# Altium schematic symbol library Schematics.SchLib: 13 symbols
Pins are listed as number, name and electrical type; pins without a type are passive.

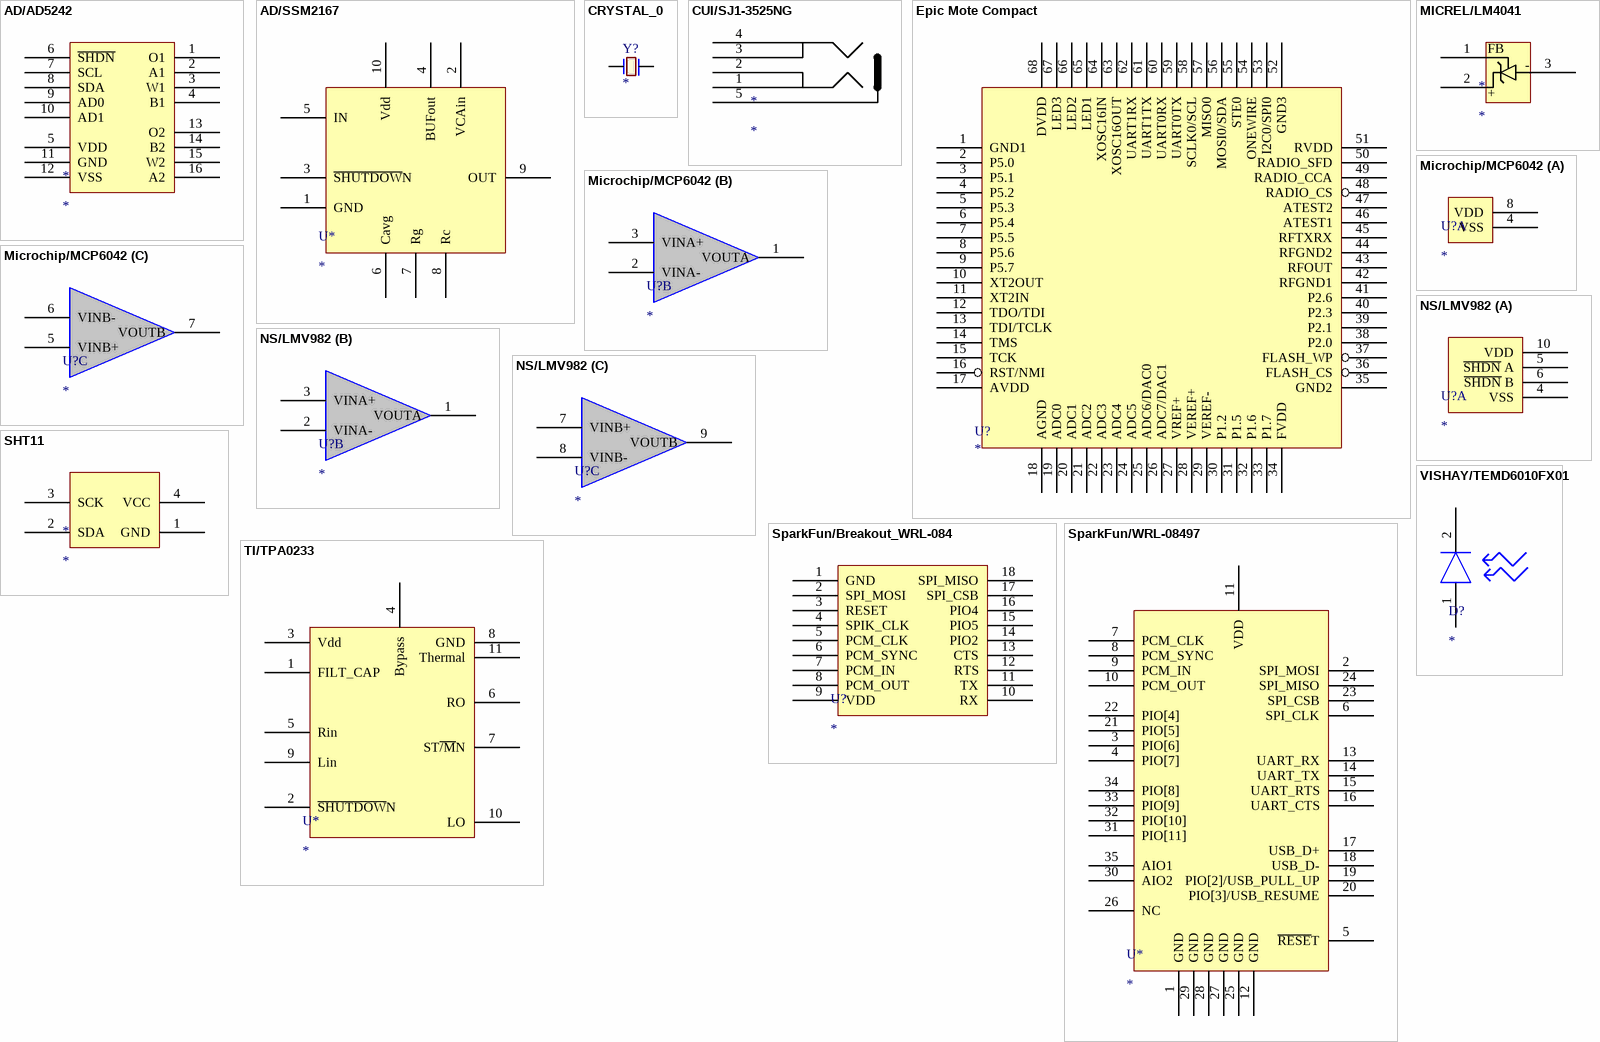
[diagram p0: symbols AD/AD5242 to VISHAY/TEMD6010FX01]

## AD/AD5242
designator *
footprint SOIC127P600X175-16N (SOIC, 16-Leads, Body 10.0x4.0mm (max), Pitch 1.27mm, IPC Medium Density, AD5242)
pins: 1 O1, 2 A1, 3 W1, 4 B1, 5 VDD, 6 ~{SHDN}, 7 SCL, 8 SDA, 9 AD0, 10 AD1, 11 GND, 12 VSS, 13 O2, 14 B2, 15 W2, 16 A2

## AD/SSM2167
designator U*
footprint MSOP127P600-8N (For AD SSM2167)
pins: 1 GND, 2 VCAin, 3 ~{SHUTDOW}N, 4 BUFout, 5 IN, 6 Cavg, 7 Rg, 8 Rc, 9 OUT, 10 Vdd

## CRYSTAL_0
designator Y?
pins: 1, 2

## CUI/SJ1-3525NG
designator *
footprint CUI/PHONE_JACK_3.5mm (3.5mm Audio Jack Stereo)
pins: 1, 2, 3, 4, 5

## Epic Mote Compact
designator U?
footprint LCCS127P2413X2413X254-68N (LCC, 68-Pins, Body 24.1x24.1mm (max), Pitch 1.27mm, IPC Medium Density)
footprint UCB/Epic_Quanto_Header (Header to connect to the Epic Quanto Testbed Board)
pins: 1 GND1, 2 P5.0, 3 P5.1, 4 P5.2, 5 P5.3, 6 P5.4, 7 P5.5, 8 P5.6, 9 P5.7, 10 XT2OUT, 11 XT2IN, 12 TDO/TDI, 13 TDI/TCLK, 14 TMS, 15 TCK, 16 RST/NMI, 17 AVDD, 18 AGND, 19 ADC0, 20 ADC1, 21 ADC2, 22 ADC3, 23 ADC4, 24 ADC5, 25 ADC6/DAC0, 26 ADC7/DAC1, 27 VREF+, 28 VEREF+, 29 VEREF-, 30 P1.2, 31 P1.5, 32 P1.6, 33 P1.7, 34 FVDD, 35 GND2, 36 FLASH_CS, 37 FLASH_WP, 38 P2.0, 39 P2.1, 40 P2.3, 41 P2.6, 42 RFGND1, 43 RFOUT, 44 RFGND2, 45 RFTXRX, 46 ATEST1, 47 ATEST2, 48 RADIO_CS, 49 RADIO_CCA, 50 RADIO_SFD, 51 RVDD, 52 GND3, 53 I2C0/SPI0, 54 ONEWIRE, 55 STE0, 56 MOSI0/SDA, 57 MISO0, 58 SCLK0/SCL, 59 UART0TX, 60 UART0RX, 61 UART1TX, 62 UART1RX, 63 XOSC16OUT, 64 XOSC16IN, 65 LED1, 66 LED2, 67 LED3, 68 DVDD

## MICREL/LM4041
designator *
footprint SOT231 (M3) (for Micrel LM4041)
pins: 1, 2, 3 -
text: FB; +

## Microchip/MCP6042
designator U?
footprint SOIC127P600X175-8N (SOIC, 8-Leads, Body 4.9x3.9mm (max), Pitch 1.27mm, IPC Medium Density, for Microchip MCP6042)
part A pins: 4 VSS (power), 8 VDD (power)
part B pins: 1 VOUTA, 2 VINA-, 3 VINA+
part C pins: 5 VINB+, 6 VINB-, 7 VOUTB

## NS/LMV982
designator U?
footprint MSOP10 (for Micrel LMV982)
part A pins: 4 VSS (power), 5 ~{SHDN} A, 6 ~{SHDN} B, 10 VDD (power)
part B pins: 1 VOUTA, 2 VINA-, 3 VINA+
part C pins: 7 VINB+, 8 VINB-, 9 VOUTB

## SHT11
designator *
footprint Sensirion/SHT11 (Sensirion SHT11 footprint)
pins: 1 GND (power), 2 SDA, 3 SCK "SCLK", 4 VCC (power)

## SparkFun/Breakout_WRL-084
designator U?
footprint SparkFun/Breakout_WRL-084 (Two 9 pin headers, 800mil spacing for SparkFun WRL-084 bluetooth module)
pins: 1 GND, 2 SPI_MOSI, 3 RESET, 4 SPIK_CLK, 5 PCM_CLK, 6 PCM_SYNC, 7 PCM_IN, 8 PCM_OUT, 9 VDD, 10 RX, 11 TX, 12 RTS, 13 CTS, 14 PIO2, 15 PIO5, 16 PIO4, 17 SPI_CSB, 18 SPI_MISO

## SparkFun/WRL-08497
designator U*
pins: 1 GND, 2 SPI_MOSI, 3 PIO[6], 4 PIO[7], 5 ~{RESE}T, 6 SPI_CLK, 7 PCM_CLK, 8 PCM_SYNC, 9 PCM_IN, 10 PCM_OUT, 11 VDD, 12 GND, 13 UART_RX, 14 UART_TX, 15 UART_RTS, 16 UART_CTS, 17 USB_D+, 18 USB_D-, 19 PIO[2]/USB_PULL_UP, 20 PIO[3]/USB_RESUME, 21 PIO[5], 22 PIO[4], 23 SPI_CSB, 24 SPI_MISO, 25 GND, 26 NC, 27 GND, 28 GND, 29 GND, 30 AIO2, 31 PIO[11], 32 PIO[10], 33 PIO[9], 34 PIO[8], 35 AIO1

## TI/TPA0233
designator U*
footprint TSSOP50P480X107_HS-10N (TSSOP, 10-Leads, Body 3.0x3.0mm (max), Pitch 0.50mm, IPC Medium Density, for TI/TPA0233)
pins: 1 FILT_CAP, 2 ~{SHUTDOW}N, 3 Vdd, 4 Bypass, 5 Rin, 6 RO, 7 ST~{/M}N, 8 GND, 9 Lin, 10 LO, 11 Thermal

## VISHAY/TEMD6010FX01
designator D?
footprint VISHAY/TEMD6010FX01 (Ambient Light Sensor)
pins: 1, 2